# Altium schematic symbol library Header_6P_Hirose_DF58_1.Schlib: 1 symbol
Pins are listed as number, name and electrical type; pins without a type are passive.

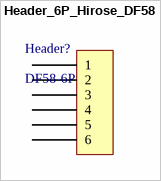
[diagram p0: symbol Header_6P_Hirose_DF58]

## Header_6P_Hirose_DF58
designator Header?, comment DF58-6P
footprint HRS_DF58_6P
pins: 1, 2, 3, 4, 5, 6